# EAGLE library part MCU_ATSAM4S-C (library Ilya_Teach)
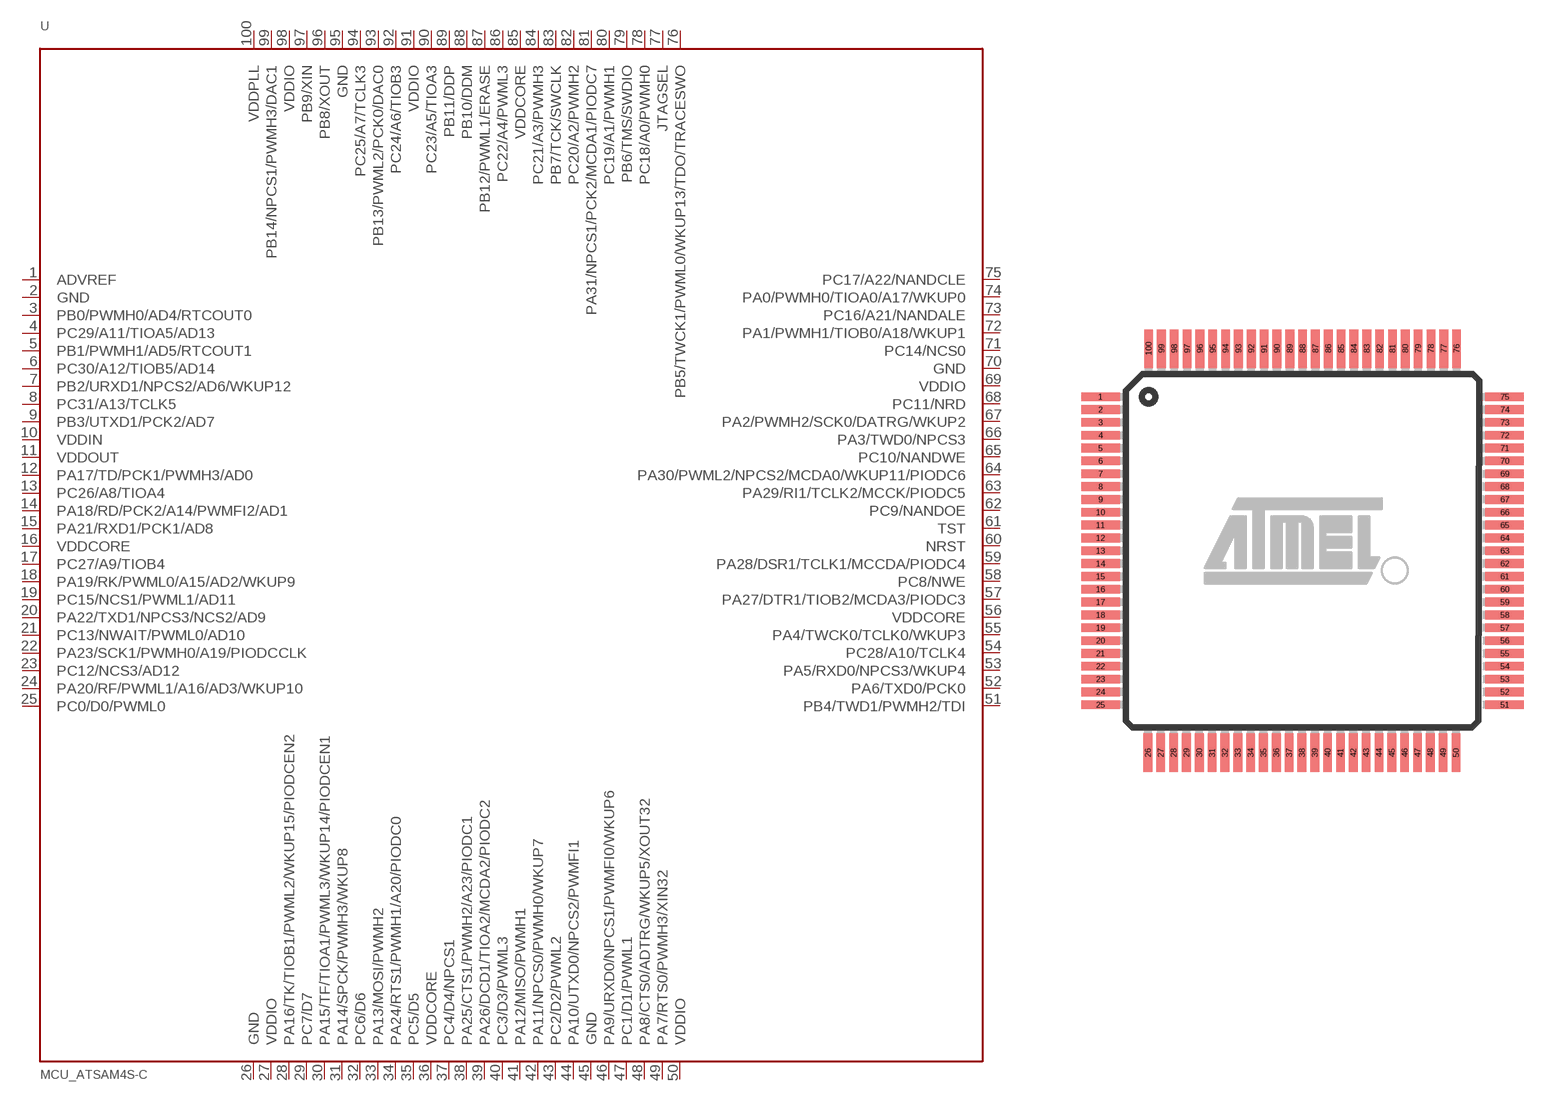
[diagram p10: symbol with the pads of LQFP100; footprint LQFP100]

Designator prefix -

## MCU_ATSAM4S-C  [LQFP100]
1  ADVREF
2  GND
3  PB0/PWMH0/AD4/RTCOUT0
4  PC29/A11/TIOA5/AD13
5  PB1/PWMH1/AD5/RTCOUT1
6  PC30/A12/TIOB5/AD14
7  PB2/URXD1/NPCS2/AD6/WKUP12
8  PC31/A13/TCLK5
9  PB3/UTXD1/PCK2/AD7
10  VDDIN
11  VDDOUT
12  PA17/TD/PCK1/PWMH3/AD0
13  PC26/A8/TIOA4
14  PA18/RD/PCK2/A14/PWMFI2/AD1
15  PA21/RXD1/PCK1/AD8
16  VDDCORE
17  PC27/A9/TIOB4
18  PA19/RK/PWML0/A15/AD2/WKUP9
19  PC15/NCS1/PWML1/AD11
20  PA22/TXD1/NPCS3/NCS2/AD9
21  PC13/NWAIT/PWML0/AD10
22  PA23/SCK1/PWMH0/A19/PIODCCLK
23  PC12/NCS3/AD12
24  PA20/RF/PWML1/A16/AD3/WKUP10
25  PC0/D0/PWML0
26  GND
27  VDDIO
28  PA16/TK/TIOB1/PWML2/WKUP15/PIODCEN2
29  PC7/D7
30  PA15/TF/TIOA1/PWML3/WKUP14/PIODCEN1
31  PA14/SPCK/PWMH3/WKUP8
32  PC6/D6
33  PA13/MOSI/PWMH2
34  PA24/RTS1/PWMH1/A20/PIODC0
35  PC5/D5
36  VDDCORE
37  PC4/D4/NPCS1
38  PA25/CTS1/PWMH2/A23/PIODC1
39  PA26/DCD1/TIOA2/MCDA2/PIODC2
40  PC3/D3/PWML3
41  PA12/MISO/PWMH1
42  PA11/NPCS0/PWMH0/WKUP7
43  PC2/D2/PWML2
44  PA10/UTXD0/NPCS2/PWMFI1
45  GND
46  PA9/URXD0/NPCS1/PWMFI0/WKUP6
47  PC1/D1/PWML1
48  PA8/CTS0/ADTRG/WKUP5/XOUT32
49  PA7/RTS0/PWMH3/XIN32
50  VDDIO
51  PB4/TWD1/PWMH2/TDI
52  PA6/TXD0/PCK0
53  PA5/RXD0/NPCS3/WKUP4
54  PC28/A10/TCLK4
55  PA4/TWCK0/TCLK0/WKUP3
56  VDDCORE
57  PA27/DTR1/TIOB2/MCDA3/PIODC3
58  PC8/NWE
59  PA28/DSR1/TCLK1/MCCDA/PIODC4
60  NRST
61  TST
62  PC9/NANDOE
63  PA29/RI1/TCLK2/MCCK/PIODC5
64  PA30/PWML2/NPCS2/MCDA0/WKUP11/PIODC6
65  PC10/NANDWE
66  PA3/TWD0/NPCS3
67  PA2/PWMH2/SCK0/DATRG/WKUP2
68  PC11/NRD
69  VDDIO
70  GND
71  PC14/NCS0
72  PA1/PWMH1/TIOB0/A18/WKUP1
73  PC16/A21/NANDALE
74  PA0/PWMH0/TIOA0/A17/WKUP0
75  PC17/A22/NANDCLE
76  PB5/TWCK1/PWML0/WKUP13/TDO/TRACESWO
77  JTAGSEL
78  PC18/A0/PWMH0
79  PB6/TMS/SWDIO
80  PC19/A1/PWMH1
81  PA31/NPCS1/PCK2/MCDA1/PIODC7
82  PC20/A2/PWMH2
83  PB7/TCK/SWCLK
84  PC21/A3/PWMH3
85  VDDCORE
86  PC22/A4/PWML3
87  PB12/PWML1/ERASE
88  PB10/DDM
89  PB11/DDP
90  PC23/A5/TIOA3
91  VDDIO
92  PC24/A6/TIOB3
93  PB13/PWML2/PCK0/DAC0
94  PC25/A7/TCLK3
95  GND
96  PB8/XOUT
97  PB9/XIN
98  VDDIO
99  PB14/NPCS1/PWMH3/DAC1
100  VDDPLL

## Footprint LQFP100 (pad centres in mm)
LQFP 100 Source: 6120s.pdf
smd 1.5 x 0.34: 1 -7.875,6; 2 -7.875,5.5; 3 -7.875,5; 4 -7.875,4.5; 5 -7.875,4; 6 -7.875,3.5; 7 -7.875,3; 8 -7.875,2.5; 9 -7.875,2; 10 -7.875,1.5; 11 -7.875,1; 12 -7.875,0.5; 13 -7.875,0; 14 -7.875,-0.5; 15 -7.875,-1; 16 -7.875,-1.5; 17 -7.875,-2; 18 -7.875,-2.5; 19 -7.875,-3; 20 -7.875,-3.5; 21 -7.875,-4; 22 -7.875,-4.5; 23 -7.875,-5; 24 -7.875,-5.5; 25 -7.875,-6; 51 7.875,-6; 52 7.875,-5.5; 53 7.875,-5; 54 7.875,-4.5; 55 7.875,-4; 56 7.875,-3.5; 57 7.875,-3; 58 7.875,-2.5; 59 7.875,-2; 60 7.875,-1.5; 61 7.875,-1; 62 7.875,-0.5; 63 7.875,0; 64 7.875,0.5; 65 7.875,1; 66 7.875,1.5; 67 7.875,2; 68 7.875,2.5; 69 7.875,3; 70 7.875,3.5; 71 7.875,4; 72 7.875,4.5; 73 7.875,5; 74 7.875,5.5; 75 7.875,6
smd 0.34 x 1.5: 26 -6.025,-7.875; 27 -5.525,-7.875; 28 -5.025,-7.875; 29 -4.525,-7.875; 30 -4.025,-7.875; 31 -3.525,-7.875; 32 -3.025,-7.875; 33 -2.525,-7.875; 34 -2.025,-7.875; 35 -1.525,-7.875; 36 -1.025,-7.875; 37 -0.525,-7.875; 38 -0.025,-7.875; 39 0.475,-7.875; 40 0.975,-7.875; 41 1.475,-7.875; 42 1.975,-7.875; 43 2.475,-7.875; 44 2.975,-7.875; 45 3.475,-7.875; 46 3.975,-7.875; 47 4.475,-7.875; 48 4.975,-7.875; 49 5.475,-7.875; 50 5.975,-7.875; 76 6,7.875; 77 5.5,7.875; 78 5,7.875; 79 4.5,7.875; 80 4,7.875; 81 3.5,7.875; 82 3,7.875; 83 2.5,7.875; 84 2,7.875; 85 1.5,7.875; 86 1,7.875; 87 0.5,7.875; 88 0,7.875; 89 -0.5,7.875; 90 -1,7.875; 91 -1.5,7.875; 92 -2,7.875; 93 -2.5,7.875; 94 -3,7.875; 95 -3.5,7.875; 96 -4,7.875; 97 -4.5,7.875; 98 -5,7.875; 99 -5.5,7.875; 100 -6,7.875